# Altium schematic symbol library LIS2DH12TR.Schlib: 1 symbol
Pins are listed as number, name and electrical type; pins without a type are passive.

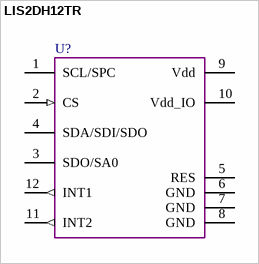
[diagram p0: symbol LIS2DH12TR]

## LIS2DH12TR
designator U?  (value not drawn)
pins: 1 SCL/SPC, 2 CS (in), 3 SDO/SA0, 4 SDA/SDI/SDO, 5 RES (power), 6 GND (power), 7 GND (power), 8 GND (power), 9 Vdd (power), 10 Vdd_IO (power), 11 INT2 (out), 12 INT1 (out)